# Altium schematic symbol library Driver_FET.SchLib: 216 symbols (part 3 of 3)
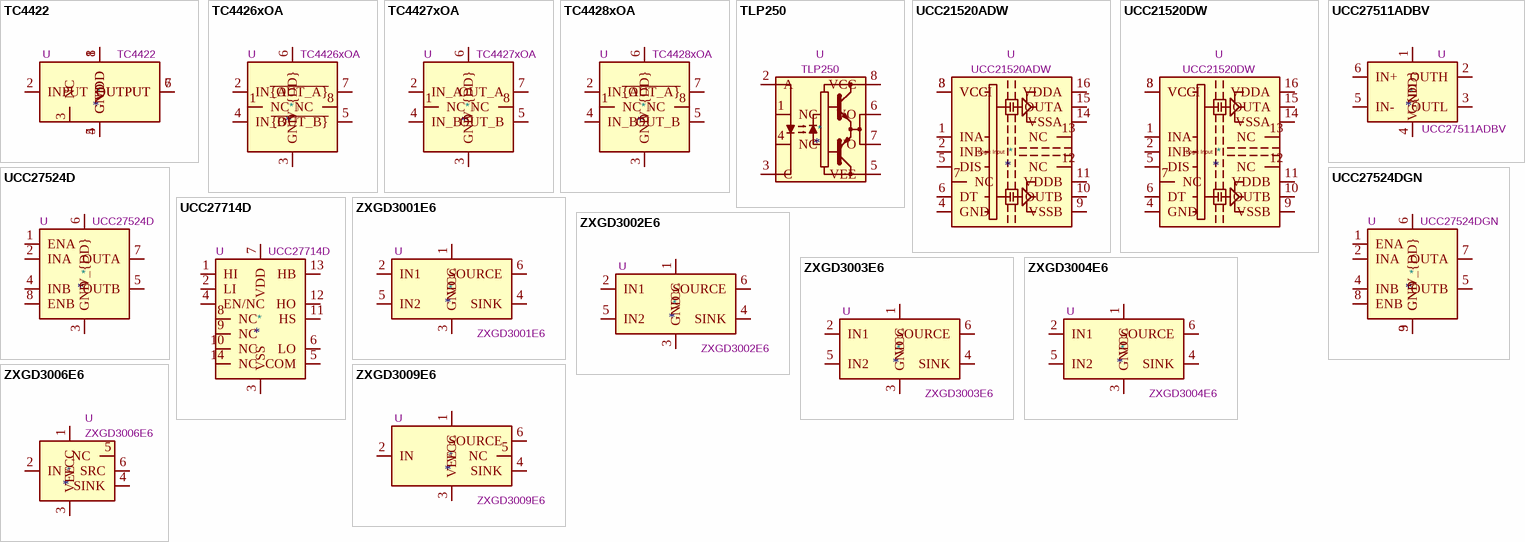
[diagram p7: symbols TC4422 to ZXGD3009E6]

## TC4422
designator *  value TC4422  Reference: U
9A High-Speed non-inverting MOSFET Driver; ki_keywords: MOSFET IGBT driver; ki_fp_filters: DIP*W7.62mm*; Footprint: Package_DIP:DIP-8_W7.62mm; Datasheet: http://ww1.microchip.com/downloads/en/DeviceDoc/20001420F.pdf; Description_: 9A High-Speed non-inverting MOSFET Driver
pins: 1 VDD, 2 INPUT, 3 NC, 4 GND, 5 GND, 6 OUTPUT, 7 OUTPUT, 8 VDD

## TC4426xOA
designator *  value TC4426xOA  Reference: U
1.5A Dual High-Speed Power MOSFET Drivers, 4.5..18V supply, TTL/CMOS compatible inputs, inverting drivers, SOIC-8; ki_keywords: TelCom-Semiconductor Microchip ESD push-pull TC426 DS0026 TC4426EOA TC4426COA TC4426VOA; ki_fp_filters: *SO*3.9*4.*P1.27mm*; Footprint: Package_SO:SOIC-8_3.9x4.9mm_P1.27mm; Datasheet: https://ww1.microchip.com/downloads/en/DeviceDoc/20001422G.pdf; Description_: 1.5A Dual High-Speed Power MOSFET Drivers, 4.5..18V supply, TTL/CMOS compatible inputs, inverting drivers, SOIC-8
pins: 1 NC, 2 IN_A, 3 GND, 4 IN_B, 5 ~{{OUT_B}}, 6 V_{DD}, 7 ~{{OUT_A}}, 8 NC

## TC4427xOA
designator *  value TC4427xOA  Reference: U
1.5A Dual High-Speed Power MOSFET Drivers, 4.5..18V supply, TTL/CMOS compatible inputs, non-inverting drivers, SOIC-8; ki_keywords: TelCom-Semiconductor Microchip ESD push-pull TC427 TC4427EOA TC4427COA TC4427VOA; ki_fp_filters: *SO*3.9*4.*P1.27mm*; Footprint: Package_SO:SOIC-8_3.9x4.9mm_P1.27mm; Datasheet: https://ww1.microchip.com/downloads/en/DeviceDoc/20001422G.pdf; Description_: 1.5A Dual High-Speed Power MOSFET Drivers, 4.5..18V supply, TTL/CMOS compatible inputs, non-inverting drivers, SOIC-8
pins: 1 NC, 2 IN_A, 3 GND, 4 IN_B, 5 OUT_B, 6 V_{DD}, 7 OUT_A, 8 NC

## TC4428xOA
designator *  value TC4428xOA  Reference: U
1.5A Dual High-Speed Power MOSFET Drivers, 4.5..18V supply, TTL/CMOS compatible inputs, complementary drivers, SOIC-8; ki_keywords: TelCom-Semiconductor Microchip ESD push-pull TC428 TC4428EOA TC4428COA TC4428VOA; ki_fp_filters: *SO*3.9*4.*P1.27mm*; Footprint: Package_SO:SOIC-8_3.9x4.9mm_P1.27mm; Datasheet: https://ww1.microchip.com/downloads/en/DeviceDoc/20001422G.pdf; Description_: 1.5A Dual High-Speed Power MOSFET Drivers, 4.5..18V supply, TTL/CMOS compatible inputs, complementary drivers, SOIC-8
pins: 1 NC, 2 IN_A, 3 GND, 4 IN_B, 5 OUT_B, 6 V_{DD}, 7 ~{{OUT_A}}, 8 NC

## TLP250
designator *  value TLP250  Reference: U
Gate Drive Optocoupler, Output Current 1.5/1.5A, DIP-8; ki_keywords: MOSFET Driver IGBT Driver Optocoupler; ki_fp_filters: DIP*W7.62mm*; Footprint: Package_DIP:DIP-8_W7.62mm; Datasheet: http://toshiba.semicon-storage.com/info/docget.jsp?did=16821&prodName=TLP250; Description_: Gate Drive Optocoupler, Output Current 1.5/1.5A, DIP-8
pins: 1 NC, 2 A, 3 C, 4 NC, 5 VEE, 6 VO, 7 VO, 8 VCC

## UCC21520ADW
designator *  value UCC21520ADW  Reference: U
Isolated Dual-Channel Gate Driver, Output Current 4.0/6.0A, 5.7kV Isolation, 5V UVLO, SOIC-16W; ki_keywords: Dual Isolated Gate Driver; ki_fp_filters: SOIC*7.5x10.3mm*P1.27mm*; Footprint: Package_SO:SOIC-16W_7.5x10.3mm_P1.27mm; Datasheet: http://www.ti.com/lit/ds/symlink/ucc21520.pdf; Description_: Isolated Dual-Channel Gate Driver, Output Current 4.0/6.0A, 5.7kV Isolation, 5V UVLO, SOIC-16W
pins: 1 INA, 2 INB, 3 VCCI, 4 GND, 5 DIS, 6 DT, 7 NC, 8 VCCI, 9 VSSB, 10 OUTB, 11 VDDB, 12 NC, 13 NC, 14 VSSA, 15 OUTA, 16 VDDA
text: Logic Input

## UCC21520DW
designator *  value UCC21520DW  Reference: U
Isolated Dual-Channel Gate Driver, Output Current 4.0/6.0A, 5.7kV Isolation, 8V UVLO, SOIC-16W; ki_keywords: Dual Isolated Gate Driver; ki_fp_filters: SOIC*7.5x10.3mm*P1.27mm*; Footprint: Package_SO:SOIC-16W_7.5x10.3mm_P1.27mm; Datasheet: http://www.ti.com/lit/ds/symlink/ucc21520.pdf; Description_: Isolated Dual-Channel Gate Driver, Output Current 4.0/6.0A, 5.7kV Isolation, 8V UVLO, SOIC-16W
pins: 1 INA, 2 INB, 3 VCCI, 4 GND, 5 DIS, 6 DT, 7 NC, 8 VCCI, 9 VSSB, 10 OUTB, 11 VDDB, 12 NC, 13 NC, 14 VSSA, 15 OUTA, 16 VDDA
text: Logic Input

## UCC27511ADBV
designator *  value UCC27511ADBV  Reference: U
Single-Channel High-Speed Low-Side Gate Driver With 4-A Peak Source and 8-A Peak Sink, SOT-23-6; ki_keywords: single channel low side gate drive dual input split output; ki_fp_filters: SOT?23*; Footprint: Package_TO_SOT_SMD:SOT-23-6; Datasheet: https://www.ti.com/lit/ds/symlink/ucc27511a.pdf; Description_: Single-Channel High-Speed Low-Side Gate Driver With 4-A Peak Source and 8-A Peak Sink, SOT-23-6
pins: 1 V_{DD}, 2 OUTH, 3 OUTL, 4 GND, 5 IN-, 6 IN+

## UCC27524D
designator *  value UCC27524D  Reference: U
Dual 5A MOSFET driver, 4.5V..18V supply, non-inverting, SOIC-8; ki_keywords: high-speed low-side negative-input-voltage-capability; ki_fp_filters: *SOIC*3.9x4.9mm*P1.27mm*; Footprint: Package_SO:SOIC-8_3.9x4.9mm_P1.27mm; Datasheet: https://www.ti.com/lit/ds/symlink/ucc27524.pdf; Description_: Dual 5A MOSFET driver, 4.5V..18V supply, non-inverting, SOIC-8
pins: 1 ENA, 2 INA, 3 GND, 4 INB, 5 OUTB, 6 V_{DD}, 7 OUTA, 8 ENB

## UCC27524DGN
designator *  value UCC27524DGN  Reference: U
Dual 5A MOSFET driver, 4.5V..18V supply, non-inverting, HTSSOP-8 (MSOP-8); ki_keywords: high-speed low-side negative-input-voltage-capability; ki_fp_filters: *SSOP*3x3mm*P0.65mm*EP2x*Mask1.846x2.15mm*; Footprint: Package_SO:Texas_DGN0008G_VSSOP-8-1EP_3x3mm_P0.65mm_EP2x2.94mm_Mask1.846x2.15mm_ThermalVias; Datasheet: https://www.ti.com/lit/ds/symlink/ucc27524.pdf; Description_: Dual 5A MOSFET driver, 4.5V..18V supply, non-inverting, HTSSOP-8 (MSOP-8)
pins: 1 ENA, 2 INA, 3 GND, 4 INB, 5 OUTB, 6 V_{DD}, 7 OUTA, 8 ENB, 9 GND

## UCC27714D
designator *  value UCC27714D  Reference: U
High-Speed, 600-V High-Side Low-Side Gate Driver, SOIC-14; ki_keywords: gate driver bootstrap; ki_fp_filters: SOIC*3.9x8.7mm*P1.27mm*; Footprint: Package_SO:SOIC-14_3.9x8.7mm_P1.27mm; Datasheet: http://www.ti.com/lit/ds/symlink/ucc27714.pdf; Description_: High-Speed, 600-V High-Side Low-Side Gate Driver, SOIC-14
pins: 1 HI, 2 LI, 3 VSS, 4 EN/NC, 5 COM, 6 LO, 7 VDD, 8 NC, 9 NC, 10 NC, 11 HS, 12 HO, 13 HB, 14 NC

## ZXGD3001E6
designator *  value ZXGD3001E6  Reference: U
9A (peak) Gate driver, 12V, 3ns delay, SOT-23-6; ki_fp_filters: SOT?23*; Footprint: Package_TO_SOT_SMD:SOT-23-6; Datasheet: http://www.diodes.com/_files/datasheets/ZXGD3001E6.pdf; Description_: 9A (peak) Gate driver, 12V, 3ns delay, SOT-23-6; ki_keywords: gate driver
pins: 1 VCC, 2 IN1, 3 GND, 4 SINK, 5 IN2, 6 SOURCE

## ZXGD3002E6
designator *  value ZXGD3002E6  Reference: U
9A (peak) Gate driver, 20V, 2ns delay, SOT-23-6; ki_fp_filters: SOT?23*; Footprint: Package_TO_SOT_SMD:SOT-23-6; Datasheet: http://www.diodes.com/_files/datasheets/ZXGD3002E6.pdf; Description_: 9A (peak) Gate driver, 20V, 2ns delay, SOT-23-6; ki_keywords: gate driver
pins: 1 VCC, 2 IN1, 3 GND, 4 SINK, 5 IN2, 6 SOURCE

## ZXGD3003E6
designator *  value ZXGD3003E6  Reference: U
5A (peak) Gate driver, 40V, 2ns delay, SOT-23-6; ki_fp_filters: SOT?23*; Footprint: Package_TO_SOT_SMD:SOT-23-6; Datasheet: http://www.diodes.com/_files/datasheets/ZXGD3003E6.pdf; Description_: 5A (peak) Gate driver, 40V, 2ns delay, SOT-23-6; ki_keywords: gate driver
pins: 1 VCC, 2 IN1, 3 GND, 4 SINK, 5 IN2, 6 SOURCE

## ZXGD3004E6
designator *  value ZXGD3004E6  Reference: U
8A (peak) Gate driver, 40V, 1ns delay, SOT-23-6; ki_fp_filters: SOT?23*; Footprint: Package_TO_SOT_SMD:SOT-23-6; Datasheet: http://www.diodes.com/_files/datasheets/ZXGD3004E6.pdf; Description_: 8A (peak) Gate driver, 40V, 1ns delay, SOT-23-6; ki_keywords: gate driver
pins: 1 VCC, 2 IN1, 3 GND, 4 SINK, 5 IN2, 6 SOURCE

## ZXGD3006E6
designator *  value ZXGD3006E6  Reference: U
40V 10A gate driver, SOT-23-6; ki_keywords: mosfet igbt driver buffer; ki_fp_filters: SOT?23*; Footprint: Package_TO_SOT_SMD:SOT-23-6; Datasheet: https://www.diodes.com/assets/Datasheets/ZXGD3006E6.pdf; Description_: 40V 10A gate driver, SOT-23-6
pins: 1 VCC, 2 IN, 3 VEE, 4 SINK, 5 NC, 6 SRC

## ZXGD3009E6
designator *  value ZXGD3009E6  Reference: U
2A (peak) Gate driver, 40V, SOT-23-6; ki_fp_filters: SOT?23*; Footprint: Package_TO_SOT_SMD:SOT-23-6; Datasheet: https://www.diodes.com/assets/Datasheets/ZXGD3009E6.pdf; Description_: 2A (peak) Gate driver, 40V, SOT-23-6; ki_keywords: gate driver
pins: 1 VCC, 2 IN, 3 VEE, 4 SINK, 5 NC, 6 SOURCE